# EAGLE library part NANO-SOCKET-IWIFI (library Connectone)
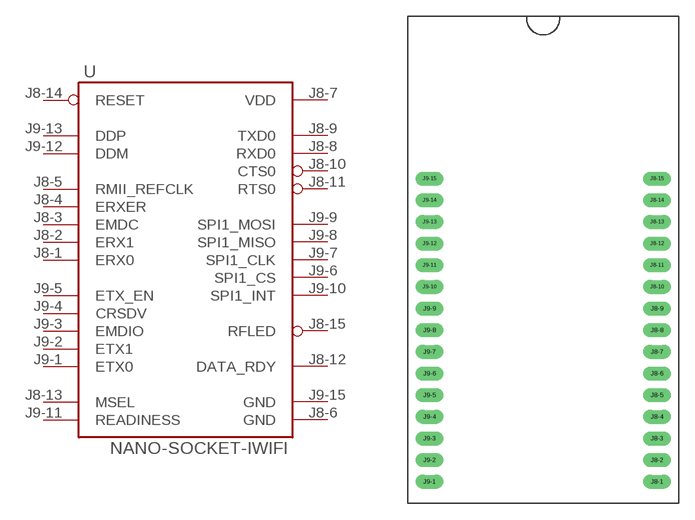
[diagram p0: symbol with the pads of NANO-SOCKET; footprint NANO-SOCKET]

Designator prefix -

## NANO-SOCKET-IWIFI  [NANO-SOCKET]
J8-1  ERX0
J8-2  ERX1
J8-3  EMDC
J8-4  ERXER
J8-5  RMII_REFCLK
J8-6  GND  pwr
J8-7  VDD  pwr
J8-8  RXD0
J8-9  TXD0
J8-10  CTS0
J8-11  RTS0
J8-12  DATA_RDY
J8-13  MSEL
J8-14  RESET
J8-15  RFLED
J9-1  ETX0
J9-2  ETX1
J9-3  EMDIO
J9-4  CRSDV
J9-5  ETX_EN
J9-6  SPI1_CS
J9-7  SPI1_CLK
J9-8  SPI1_MISO
J9-9  SPI1_MOSI
J9-10  SPI1_INT
J9-11  READINESS
J9-12  DDM
J9-13  DDP
J9-15  GND  pwr

## Footprint NANO-SOCKET (pad centres in mm)
drill 0.8 long: J8-1 10.5,-10; J8-2 10.5,-8; J8-3 10.5,-6; J8-4 10.5,-4; J8-5 10.5,-2; J8-6 10.5,0; J8-7 10.5,2; J8-8 10.5,4; J8-9 10.5,6; J8-10 10.5,8; J8-11 10.5,10; J8-12 10.5,12; J8-13 10.5,14; J8-14 10.5,16; J8-15 10.5,18; J9-1 -10.5,-10; J9-2 -10.5,-8; J9-3 -10.5,-6; J9-4 -10.5,-4; J9-5 -10.5,-2; J9-6 -10.5,0; J9-7 -10.5,2; J9-8 -10.5,4; J9-9 -10.5,6; J9-10 -10.5,8; J9-11 -10.5,10; J9-12 -10.5,12; J9-13 -10.5,14; J9-14 -10.5,16; J9-15 -10.5,18